# EAGLE library part RASPIBERRYPI-B+-GPIO--SPECIAL (library SparkFun-Boards)
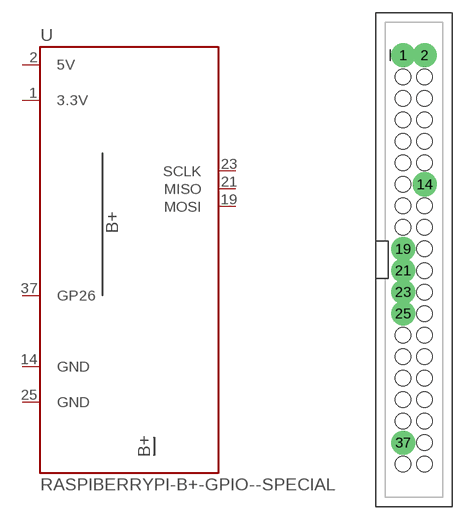
[diagram p0: symbol with the pads of 2X20-SHROUDED--SPECIAL; footprint 2X20-SHROUDED--SPECIAL]

Designator prefix -

## RASPIBERRYPI-B+-GPIO--SPECIAL  [2X20-SHROUDED--SPECIAL]
1  3.3V  pwr
2  5V  pwr
14  GND  pwr
19  MOSI  out
21  MISO  in
23  SCLK  out
25  GND  pwr
37  GP26

## Footprint 2X20-SHROUDED--SPECIAL (pad centres in mm)
drill 1.905 pad 2.286: 1 -1.27,24.13; 2 1.27,24.13; 14 1.27,8.89; 19 -1.27,1.27; 21 -1.27,-1.27; 23 -1.27,-3.81; 25 -1.27,-6.35; 37 -1.27,-21.59
hole 1.829 at -1.27,21.59
hole 1.829 at -1.27,19.05
hole 1.829 at -1.27,16.51
hole 1.829 at 1.27,16.51
hole 1.829 at 1.27,13.97
hole 1.829 at 1.27,11.43
hole 1.829 at -1.27,11.43
hole 1.829 at -1.27,8.89
hole 1.829 at -1.27,6.35
hole 1.829 at 1.27,6.35
hole 1.829 at 1.27,3.81
hole 1.829 at 1.27,1.27
hole 1.829 at 1.27,-1.27
hole 1.829 at 1.27,-3.81
hole 1.829 at 1.27,-6.35
hole 1.829 at 1.27,-8.89
hole 1.829 at -1.27,-8.89
hole 1.829 at -1.27,-11.43
hole 1.829 at -1.27,-13.97
hole 1.829 at 1.27,-13.97
hole 1.829 at -1.27,-16.51
hole 1.829 at 1.27,-19.05
hole 1.829 at 1.27,-21.59
hole 1.829 at 1.27,-24.13
hole 1.829 at -1.27,-19.05
hole 1.829 at -1.27,-24.13
hole 1.829 at 1.27,-16.51
hole 1.829 at 1.27,-11.43
hole 1.829 at -1.27,13.97
hole 1.829 at 1.27,19.05
hole 1.829 at 1.27,21.59
hole 1.829 at -1.27,3.81